# Altium schematic symbol library Testpoint.SchLib: 1 symbol
Pins are listed as number, name and electrical type; pins without a type are passive.

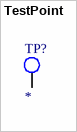
[diagram p0: symbol TestPoint]

## TestPoint
designator TP?  (no BOM)
footprint PCBComponent_1
pins: 1